# Altium integrated library EPSON Crystal Unit.IntLib: 2 symbols
Pins are listed as number, name and electrical type; pins without a type are passive.

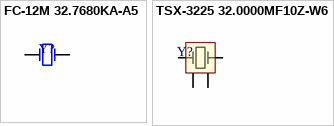
[diagram p0: symbols FC-12M 32.7680KA-A5 to TSX-3225 32.0000MF10Z-W6]

## FC-12M 32.7680KA-A5
designator Y?
32.768kHz ±20ppm Crystal 12.5pF 90 kOhms 2-SMD, No Lead; Manufacturer: EPSON; PartNumber: FC-12M 32.7680KA-A5; Package: FC-12M; PackageDescription: 2-SMD, No Lead, Outline 2.05*1.20mm; Supplier 1: Digi-Key; Supplier Part Number 1: SER4080TR-ND
footprint FC-12M (Chip Crystal, SMD 2-Pin, Body 2.05x1.20mm, IPC Medium Density)
pins: 1 OSC1, 2 OSC2

## TSX-3225 32.0000MF10Z-W6
designator Y?
32MHz ±10ppm Crystal 12pF 40 Ohms 4-SMD, No Lead; Manufacturer: EPSON; PartNumber: TSX-3225 32.0000MF10Z-W6; Package: TSX-3225; PackageDescription: 4-SMD, No Lead; Supplier 1: Digi-Key; Supplier Part Number 1: SER4378TR-ND
footprint TSX-3225 (SMD 4-Pin, Body 3.20x2.50mm, Pitch 2.20mm/1.60mm, IPC Medium Density)
pins: 1 OSC1, 2 GND (power), 3 OSC2, 4 GND (power)